# Altium schematic symbol library u_HT42B533.SchLib: 1 symbol
Pins are listed as number, name and electrical type; pins without a type are passive.

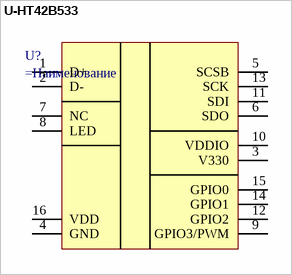
[diagram p0: symbol U-HT42B533]

## U-HT42B533
designator U?
=Описание; ComponentLink1Description: datasheet; ComponentLink1URL: https://www.holtek.com/documents/10179/116711/HT42B533-xv120.pdf
pins: 1 D+, 2 D-, 3 V330, 4 GND, 5 SCSB, 6 SDO, 7 NC, 8 LED, 9 GPIO3/PWM, 10 VDDIO, 11 SDI, 12 GPIO2, 13 SCK, 14 GPIO1, 15 GPIO0, 16 VDD